# EAGLE library part MAESTRO-A2200 (library personal)
Maestro A2200-A - 48 channel GPS receiver module The GPS module A2200-A is Maestro’s first implementation of CSR’s SiRFstarIV ROM chip on GPS module. This is a highly integrated GPS receiver that can be easily used as like regular SMT components. A very easy implementation (power, serial, ON_OFF, and antenna) allows receiving position, velocity and time information. The A2200-A is a module designed for a 3.3V environment.
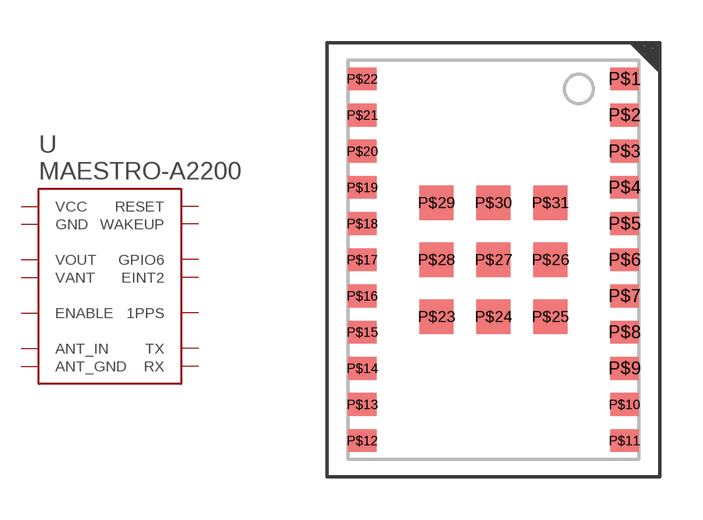
[diagram p19: symbol with the pads of MASETRO-A2200; footprint MASETRO-A2200]

Designator prefix U

## MAESTRO-A2200  [MASETRO-A2200]
P$2  VOUT
P$3  TX
P$4  RX
P$5  EINT2
P$6  ENABLE
P$7  GND
P$8  GND
P$9  VANT
P$10  ANT_GND
P$11  ANT_IN
P$14  1PPS
P$17  GPIO6
P$19  WAKEUP
P$20  VCC
P$22  RESET
P$23  GND
P$24  GND
P$25  GND
P$26  GND
P$27  GND
P$28  GND
P$29  GND
P$30  GND
P$31  GND

## Footprint MASETRO-A2200 (pad centres in mm)
smd 1 x 0.8: P$1 4.6,6.35; P$2 4.6,5.08; P$3 4.6,3.81; P$4 4.6,2.54; P$5 4.6,1.27; P$6 4.6,0; P$7 4.6,-1.27; P$8 4.6,-2.54; P$9 4.6,-3.81; P$10 4.6,-5.08; P$11 4.6,-6.35; P$12 -4.6,-6.35; P$13 -4.6,-5.08; P$14 -4.6,-3.81; P$15 -4.6,-2.54; P$16 -4.6,-1.27; P$17 -4.6,0; P$18 -4.6,1.27; P$19 -4.6,2.54; P$20 -4.6,3.81; P$21 -4.6,5.08; P$22 -4.6,6.35
smd 1.2 x 1.2: P$23 -2,-2; P$24 0,-2; P$25 2,-2; P$26 2,0; P$27 0,0; P$28 -2,0; P$29 -2,2; P$30 0,2; P$31 2,2